# Altium schematic symbol library SCH - MCU - NUVOTON - NUVOTON NUC123ZD4AE0.SchLib: 1 symbol
Pins are listed as number, name and electrical type; pins without a type are passive.

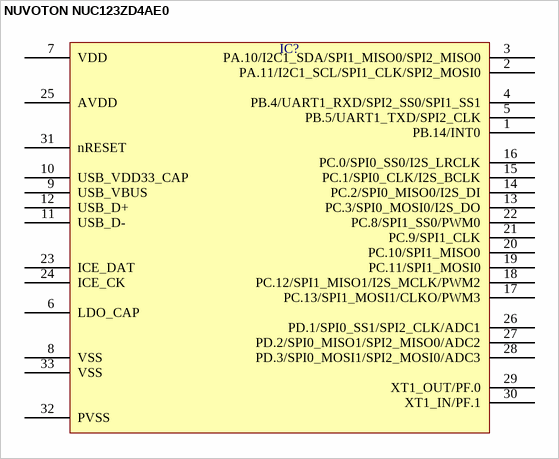
[diagram p0: symbol NUVOTON NUC123ZD4AE0]

## NUVOTON NUC123ZD4AE0
designator IC?  (value not drawn)
pins: 1 PB.14/INT0, 2 PA.11/I2C1_SCL/SPI1_CLK/SPI2_MOSI0, 3 PA.10/I2C1_SDA/SPI1_MISO0/SPI2_MISO0, 4 PB.4/UART1_RXD/SPI2_SS0/SPI1_SS1, 5 PB.5/UART1_TXD/SPI2_CLK, 6 LDO_CAP, 7 VDD, 8 VSS, 9 USB_VBUS, 10 USB_VDD33_CAP, 11 USB_D-, 12 USB_D+, 13 PC.3/SPI0_MOSI0/I2S_DO, 14 PC.2/SPI0_MISO0/I2S_DI, 15 PC.1/SPI0_CLK/I2S_BCLK, 16 PC.0/SPI0_SS0/I2S_LRCLK, 17 PC.13/SPI1_MOSI1/CLKO/PWM3, 18 PC.12/SPI1_MISO1/I2S_MCLK/PWM2, 19 PC.11/SPI1_MOSI0, 20 PC.10/SPI1_MISO0, 21 PC.9/SPI1_CLK, 22 PC.8/SPI1_SS0/PWM0, 23 ICE_DAT, 24 ICE_CK, 25 AVDD, 26 PD.1/SPI0_SS1/SPI2_CLK/ADC1, 27 PD.2/SPI0_MISO1/SPI2_MISO0/ADC2, 28 PD.3/SPI0_MOSI1/SPI2_MOSI0/ADC3, 29 XT1_OUT/PF.0, 30 XT1_IN/PF.1, 31 nRESET, 32 PVSS, 33 VSS